# EAGLE library part TTGOBEAM (library bibliotecattgo)
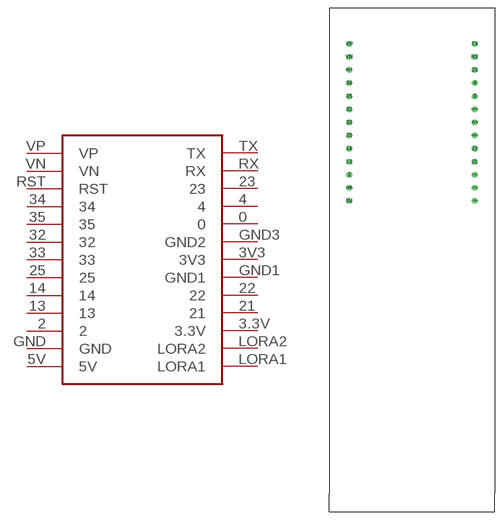
[diagram p0: symbol with the pads of TTGOBEAM; footprint TTGOBEAM]

Designator prefix -

## TTGOBEAM  [TTGOBEAM]
0  0
2  2
3.3V  3.3V
3V3  3V3
4  4
5V  5V
13  13
14  14
21  21
22  22
23  23
25  25
32  32
33  33
34  34
35  35
GND  GND
GND1  GND1
GND3  GND2
LORA1  LORA1
LORA2  LORA2
RST  RST
RX  RX
TX  TX
VN  VN
VP  VP

## Footprint TTGOBEAM (pad centres in mm)
TTGO TTBEAM BOARD
drill 0.6: 0 11.9,5.8; 2 -13,-9.8; 3.3V 11.9,-9.8; 3V3 11.9,0.6; 4 11.9,8.4; 5V -13,-15; 13 -13,-7.2; 14 -13,-4.6; 21 11.9,-7.2; 22 11.9,-4.6; 23 11.9,11; 25 -13,-2; 32 -13,3.2; 33 -13,0.6; 34 -13,8.4; 35 -13,5.8; GND -13,-12.4; GND1 11.9,-2; GND3 11.9,3.2; LORA1 11.9,-15; LORA2 11.9,-12.4; RST -13,11; RX 11.9,13.6; TX 11.9,16.2; VN -13,13.6; VP -13,16.2